# Altium footprint library CQFP_Sq_63P_Side_N.PcbLib: 12 footprints
Each footprint in its own frame and in the unit in brackets; x right, y up, seen from the top. Pads: shape width x height; smd on the part's side, far side on the other; paste and mask are expansions set on the pad; w line width, h text height; cw(c..) or ccw(c..) is an arc to the next point about the centre after c.
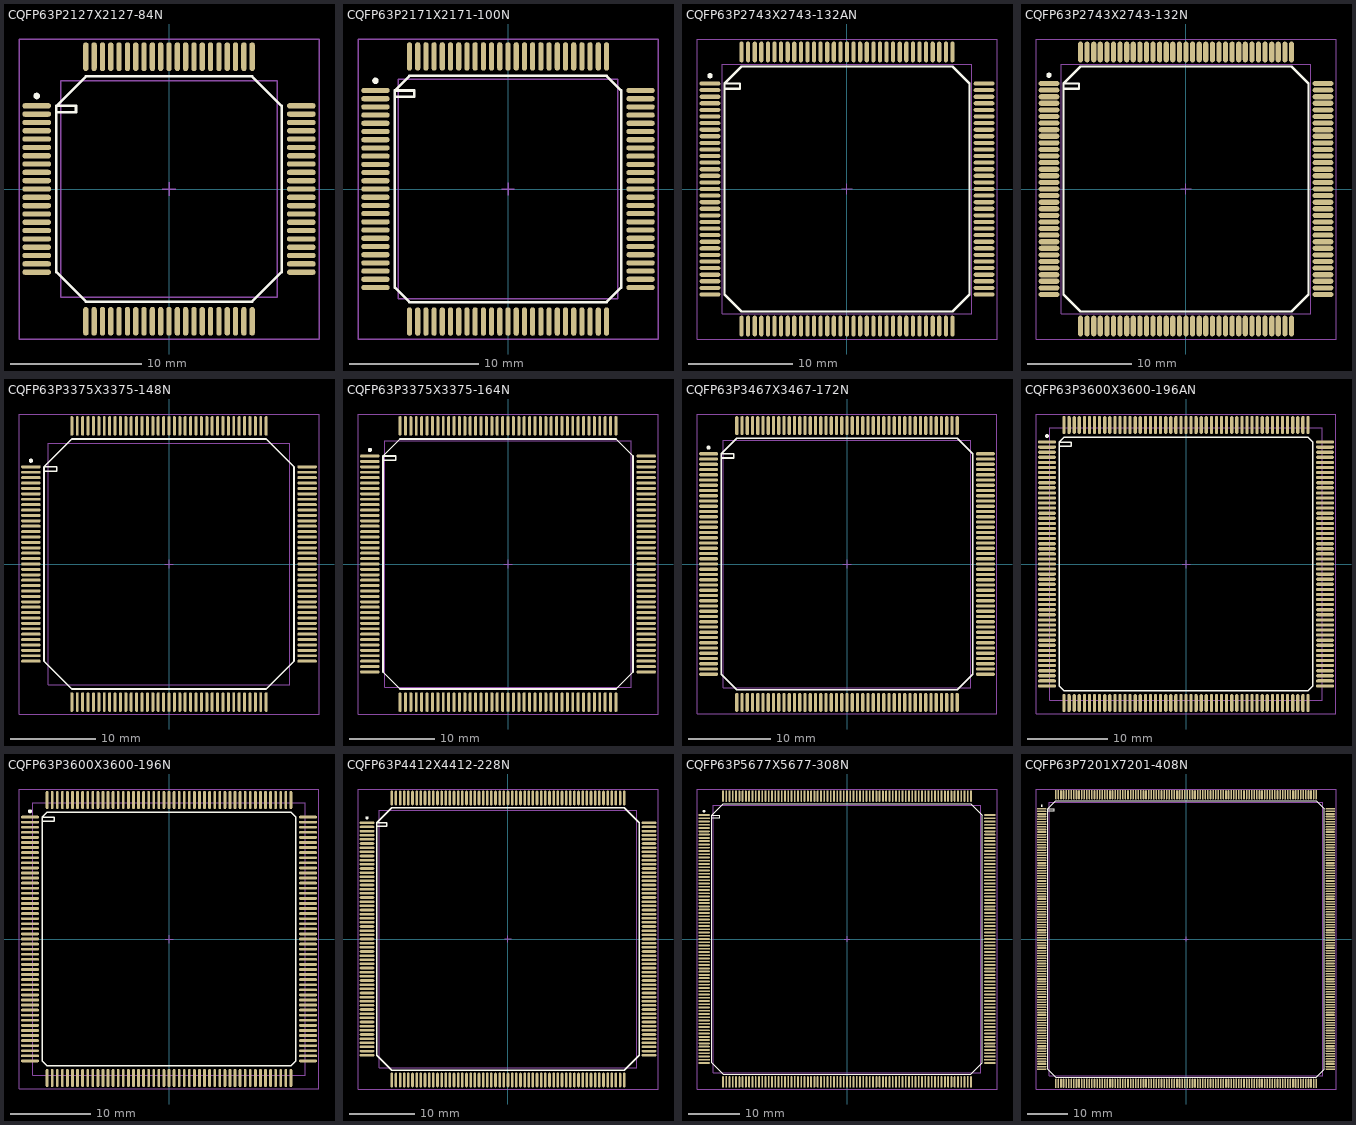
[diagram p0: the footprints below, top view; thin cyan lines are the x and y axes]

## CQFP63P2127X2127-84N [mm] "CQFP, 84-Leads, Body 16.5x16.5mm; Pitch 0.635mm, Gullwing Leadform, IPC Medium Density"
height 2.4
pads (84):
  oval 2.2x0.4 smd: 1(-10.1,6.35) 2(-10.1,5.715) 3(-10.1,5.08) 4(-10.1,4.445) 5(-10.1,3.81) 6(-10.1,3.175) 7(-10.1,2.54) 8(-10.1,1.905) 9(-10.1,1.27) 10(-10.1,0.635) 11(-10.1,0) 12(-10.1,-0.635) 13(-10.1,-1.27) 14(-10.1,-1.905) 15(-10.1,-2.54) 16(-10.1,-3.175) 17(-10.1,-3.81) 18(-10.1,-4.445) 19(-10.1,-5.08) 20(-10.1,-5.715) 21(-10.1,-6.35) 43(10.1,-6.35) 44(10.1,-5.715) 45(10.1,-5.08) 46(10.1,-4.445) 47(10.1,-3.81) 48(10.1,-3.175) 49(10.1,-2.54) 50(10.1,-1.905) 51(10.1,-1.27) 52(10.1,-0.635) 53(10.1,0) 54(10.1,0.635) 55(10.1,1.27) 56(10.1,1.905) 57(10.1,2.54) 58(10.1,3.175) 59(10.1,3.81) 60(10.1,4.445) 61(10.1,5.08) 62(10.1,5.715) 63(10.1,6.35)
  oval 0.4x2.2 smd: 22(-6.35,-10.1) 23(-5.715,-10.1) 24(-5.08,-10.1) 25(-4.445,-10.1) 26(-3.81,-10.1) 27(-3.175,-10.1) 28(-2.54,-10.1) 29(-1.905,-10.1) 30(-1.27,-10.1) 31(-0.635,-10.1) 32(0,-10.1) 33(0.635,-10.1) 34(1.27,-10.1) 35(1.905,-10.1) 36(2.54,-10.1) 37(3.175,-10.1) 38(3.81,-10.1) 39(4.445,-10.1) 40(5.08,-10.1) 41(5.715,-10.1) 42(6.35,-10.1) 64(6.35,10.1) 65(5.715,10.1) 66(5.08,10.1) 67(4.445,10.1) 68(3.81,10.1) 69(3.175,10.1) 70(2.54,10.1) 71(1.905,10.1) 72(1.27,10.1) 73(0.635,10.1) 74(0,10.1) 75(-0.635,10.1) 76(-1.27,10.1) 77(-1.905,10.1) 78(-2.54,10.1) 79(-3.175,10.1) 80(-3.81,10.1) 81(-4.445,10.1) 82(-5.08,10.1) 83(-5.715,10.1) 84(-6.35,10.1)
Top Overlay:
  circle w0.25: c-10.1,7.1 r0.125
  lines w0.2: -8.6,5.85 -7.1,5.85 -7.1,6.35 -8.6,6.35 ; -8.6,6.35 -6.35,8.6 6.35,8.6 8.6,6.35 8.6,-6.35 6.35,-8.6 -6.35,-8.6 -8.6,-6.35 -8.6,6.35
Mechanical 13:
  lines w0.1: -8.255,-8.255 8.255,-8.255 8.255,8.255 -8.255,8.255 -8.255,-8.255
Mechanical 15:
  lines w0.1: -0.5,0 0.5,0 ; 0,-0.5 0,0.5 ; -11.45,-11.45 11.45,-11.45 11.45,11.45 -11.45,11.45 -11.45,-11.45
3D body: height 2.4, standoff 0, extent -8.255,-8.255 8.255,8.255

## CQFP63P2171X2171-100N [mm] "100-Pin Ceramic Quad Flat Pack 0.635 mm Pitch"
height 3.2
pads (100):
  oval 2.2x0.4 smd: 1(-10.25,7.62) 2(-10.25,6.985) 3(-10.25,6.35) 4(-10.25,5.715) 5(-10.25,5.08) 6(-10.25,4.445) 7(-10.25,3.81) 8(-10.25,3.175) 9(-10.25,2.54) 10(-10.25,1.905) 11(-10.25,1.27) 12(-10.25,0.635) 13(-10.25,0) 14(-10.25,-0.635) 15(-10.25,-1.27) 16(-10.25,-1.905) 17(-10.25,-2.54) 18(-10.25,-3.175) 19(-10.25,-3.81) 20(-10.25,-4.445) 21(-10.25,-5.08) 22(-10.25,-5.715) 23(-10.25,-6.35) 24(-10.25,-6.985) 25(-10.25,-7.62) 51(10.25,-7.62) 52(10.25,-6.985) 53(10.25,-6.35) 54(10.25,-5.715) 55(10.25,-5.08) 56(10.25,-4.445) 57(10.25,-3.81) 58(10.25,-3.175) 59(10.25,-2.54) 60(10.25,-1.905) 61(10.25,-1.27) 62(10.25,-0.635) 63(10.25,0) 64(10.25,0.635) 65(10.25,1.27) 66(10.25,1.905) 67(10.25,2.54) 68(10.25,3.175) 69(10.25,3.81) 70(10.25,4.445) 71(10.25,5.08) 72(10.25,5.715) 73(10.25,6.35) 74(10.25,6.985) 75(10.25,7.62)
  oval 0.4x2.2 smd: 26(-7.62,-10.25) 27(-6.985,-10.25) 28(-6.35,-10.25) 29(-5.715,-10.25) 30(-5.08,-10.25) 31(-4.445,-10.25) 32(-3.81,-10.25) 33(-3.175,-10.25) 34(-2.54,-10.25) 35(-1.905,-10.25) 36(-1.27,-10.25) 37(-0.635,-10.25) 38(0,-10.25) 39(0.635,-10.25) 40(1.27,-10.25) 41(1.905,-10.25) 42(2.54,-10.25) 43(3.175,-10.25) 44(3.81,-10.25) 45(4.445,-10.25) 46(5.08,-10.25) 47(5.715,-10.25) 48(6.35,-10.25) 49(6.985,-10.25) 50(7.62,-10.25) 76(7.62,10.25) 77(6.985,10.25) 78(6.35,10.25) 79(5.715,10.25) 80(5.08,10.25) 81(4.445,10.25) 82(3.81,10.25) 83(3.175,10.25) 84(2.54,10.25) 85(1.905,10.25) 86(1.27,10.25) 87(0.635,10.25) 88(0,10.25) 89(-0.635,10.25) 90(-1.27,10.25) 91(-1.905,10.25) 92(-2.54,10.25) 93(-3.175,10.25) 94(-3.81,10.25) 95(-4.445,10.25) 96(-5.08,10.25) 97(-5.715,10.25) 98(-6.35,10.25) 99(-6.985,10.25) 100(-7.62,10.25)
Top Overlay:
  circle w0.25: c-10.25,8.37 r0.125
  lines w0.2: -8.75,7.12 -7.25,7.12 -7.25,7.62 -8.75,7.62 ; -8.75,7.62 -7.62,8.75 7.62,8.75 8.75,7.62 8.75,-7.62 7.62,-8.75 -7.62,-8.75 -8.75,-7.62 -8.75,7.62
Mechanical 13:
  lines w0.1: -8.475,-8.475 8.475,-8.475 8.475,8.475 -8.475,8.475 -8.475,-8.475
Mechanical 15:
  lines w0.1: -0.5,0 0.5,0 ; 0,-0.5 0,0.5 ; -11.6,-11.6 11.6,-11.6 11.6,11.6 -11.6,11.6 -11.6,-11.6
3D body: height 3.2, standoff 0, extent -8.475,-8.475 8.475,8.475

## CQFP63P2743X2743-132AN [mm] "CQFP, 132-Leads, Body 24x24mm; Pitch 0.635mm, Gullwing Leadform, IPC Medium Density"
height 3
pads (132):
  oval 2x0.4 smd: 1(-13.2,10.16) 2(-13.2,9.525) 3(-13.2,8.89) 4(-13.2,8.255) 5(-13.2,7.62) 6(-13.2,6.985) 7(-13.2,6.35) 8(-13.2,5.715) 9(-13.2,5.08) 10(-13.2,4.445) 11(-13.2,3.81) 12(-13.2,3.175) 13(-13.2,2.54) 14(-13.2,1.905) 15(-13.2,1.27) 16(-13.2,0.635) 17(-13.2,0) 18(-13.2,-0.635) 19(-13.2,-1.27) 20(-13.2,-1.905) 21(-13.2,-2.54) 22(-13.2,-3.175) 23(-13.2,-3.81) 24(-13.2,-4.445) 25(-13.2,-5.08) 26(-13.2,-5.715) 27(-13.2,-6.35) 28(-13.2,-6.985) 29(-13.2,-7.62) 30(-13.2,-8.255) 31(-13.2,-8.89) 32(-13.2,-9.525) 33(-13.2,-10.16) 67(13.2,-10.16) 68(13.2,-9.525) 69(13.2,-8.89) 70(13.2,-8.255) 71(13.2,-7.62) 72(13.2,-6.985) 73(13.2,-6.35) 74(13.2,-5.715) 75(13.2,-5.08) 76(13.2,-4.445) 77(13.2,-3.81) 78(13.2,-3.175) 79(13.2,-2.54) 80(13.2,-1.905) 81(13.2,-1.27) 82(13.2,-0.635) 83(13.2,0) 84(13.2,0.635) 85(13.2,1.27) 86(13.2,1.905) 87(13.2,2.54) 88(13.2,3.175) 89(13.2,3.81) 90(13.2,4.445) 91(13.2,5.08) 92(13.2,5.715) 93(13.2,6.35) 94(13.2,6.985) 95(13.2,7.62) 96(13.2,8.255) 97(13.2,8.89) 98(13.2,9.525) 99(13.2,10.16)
  oval 0.4x2 smd: 34(-10.16,-13.2) 35(-9.525,-13.2) 36(-8.89,-13.2) 37(-8.255,-13.2) 38(-7.62,-13.2) 39(-6.985,-13.2) 40(-6.35,-13.2) 41(-5.715,-13.2) 42(-5.08,-13.2) 43(-4.445,-13.2) 44(-3.81,-13.2) 45(-3.175,-13.2) 46(-2.54,-13.2) 47(-1.905,-13.2) 48(-1.27,-13.2) 49(-0.635,-13.2) 50(0,-13.2) 51(0.635,-13.2) 52(1.27,-13.2) 53(1.905,-13.2) 54(2.54,-13.2) 55(3.175,-13.2) 56(3.81,-13.2) 57(4.445,-13.2) 58(5.08,-13.2) 59(5.715,-13.2) 60(6.35,-13.2) 61(6.985,-13.2) 62(7.62,-13.2) 63(8.255,-13.2) 64(8.89,-13.2) 65(9.525,-13.2) 66(10.16,-13.2) 100(10.16,13.2) 101(9.525,13.2) 102(8.89,13.2) 103(8.255,13.2) 104(7.62,13.2) 105(6.985,13.2) 106(6.35,13.2) 107(5.715,13.2) 108(5.08,13.2) 109(4.445,13.2) 110(3.81,13.2) 111(3.175,13.2) 112(2.54,13.2) 113(1.905,13.2) 114(1.27,13.2) 115(0.635,13.2) 116(0,13.2) 117(-0.635,13.2) 118(-1.27,13.2) 119(-1.905,13.2) 120(-2.54,13.2) 121(-3.175,13.2) 122(-3.81,13.2) 123(-4.445,13.2) 124(-5.08,13.2) 125(-5.715,13.2) 126(-6.35,13.2) 127(-6.985,13.2) 128(-7.62,13.2) 129(-8.255,13.2) 130(-8.89,13.2) 131(-9.525,13.2) 132(-10.16,13.2)
Top Overlay:
  circle w0.25: c-13.2,10.91 r0.125
  lines w0.2: -11.8,9.66 -10.3,9.66 -10.3,10.16 -11.8,10.16 ; -11.8,10.16 -10.16,11.8 10.16,11.8 11.8,10.16 11.8,-10.16 10.16,-11.8 -10.16,-11.8 -11.8,-10.16 -11.8,10.16
Mechanical 13:
  lines w0.1: -12.035,-12.035 12.035,-12.035 12.035,12.035 -12.035,12.035 -12.035,-12.035
Mechanical 15:
  lines w0.1: -0.5,0 0.5,0 ; 0,-0.5 0,0.5 ; -14.45,-14.45 14.45,-14.45 14.45,14.45 -14.45,14.45 -14.45,-14.45
3D body: height 3, standoff 0, extent -12.035,-12.035 12.035,12.035

## CQFP63P2743X2743-132N [mm] "CQFP, 132-Leads, Body 24x24mm; Pitch 0.635mm, Gullwing Leadform, IPC Medium Density"
height 3.6
pads (132):
  oval 2x0.5 smd: 1(-13.2,10.16) 2(-13.2,9.525) 3(-13.2,8.89) 4(-13.2,8.255) 5(-13.2,7.62) 6(-13.2,6.985) 7(-13.2,6.35) 8(-13.2,5.715) 9(-13.2,5.08) 10(-13.2,4.445) 11(-13.2,3.81) 12(-13.2,3.175) 13(-13.2,2.54) 14(-13.2,1.905) 15(-13.2,1.27) 16(-13.2,0.635) 17(-13.2,0) 18(-13.2,-0.635) 19(-13.2,-1.27) 20(-13.2,-1.905) 21(-13.2,-2.54) 22(-13.2,-3.175) 23(-13.2,-3.81) 24(-13.2,-4.445) 25(-13.2,-5.08) 26(-13.2,-5.715) 27(-13.2,-6.35) 28(-13.2,-6.985) 29(-13.2,-7.62) 30(-13.2,-8.255) 31(-13.2,-8.89) 32(-13.2,-9.525) 33(-13.2,-10.16) 67(13.2,-10.16) 68(13.2,-9.525) 69(13.2,-8.89) 70(13.2,-8.255) 71(13.2,-7.62) 72(13.2,-6.985) 73(13.2,-6.35) 74(13.2,-5.715) 75(13.2,-5.08) 76(13.2,-4.445) 77(13.2,-3.81) 78(13.2,-3.175) 79(13.2,-2.54) 80(13.2,-1.905) 81(13.2,-1.27) 82(13.2,-0.635) 83(13.2,0) 84(13.2,0.635) 85(13.2,1.27) 86(13.2,1.905) 87(13.2,2.54) 88(13.2,3.175) 89(13.2,3.81) 90(13.2,4.445) 91(13.2,5.08) 92(13.2,5.715) 93(13.2,6.35) 94(13.2,6.985) 95(13.2,7.62) 96(13.2,8.255) 97(13.2,8.89) 98(13.2,9.525) 99(13.2,10.16)
  oval 0.5x2 smd: 34(-10.16,-13.2) 35(-9.525,-13.2) 36(-8.89,-13.2) 37(-8.255,-13.2) 38(-7.62,-13.2) 39(-6.985,-13.2) 40(-6.35,-13.2) 41(-5.715,-13.2) 42(-5.08,-13.2) 43(-4.445,-13.2) 44(-3.81,-13.2) 45(-3.175,-13.2) 46(-2.54,-13.2) 47(-1.905,-13.2) 48(-1.27,-13.2) 49(-0.635,-13.2) 50(0,-13.2) 51(0.635,-13.2) 52(1.27,-13.2) 53(1.905,-13.2) 54(2.54,-13.2) 55(3.175,-13.2) 56(3.81,-13.2) 57(4.445,-13.2) 58(5.08,-13.2) 59(5.715,-13.2) 60(6.35,-13.2) 61(6.985,-13.2) 62(7.62,-13.2) 63(8.255,-13.2) 64(8.89,-13.2) 65(9.525,-13.2) 66(10.16,-13.2) 100(10.16,13.2) 101(9.525,13.2) 102(8.89,13.2) 103(8.255,13.2) 104(7.62,13.2) 105(6.985,13.2) 106(6.35,13.2) 107(5.715,13.2) 108(5.08,13.2) 109(4.445,13.2) 110(3.81,13.2) 111(3.175,13.2) 112(2.54,13.2) 113(1.905,13.2) 114(1.27,13.2) 115(0.635,13.2) 116(0,13.2) 117(-0.635,13.2) 118(-1.27,13.2) 119(-1.905,13.2) 120(-2.54,13.2) 121(-3.175,13.2) 122(-3.81,13.2) 123(-4.445,13.2) 124(-5.08,13.2) 125(-5.715,13.2) 126(-6.35,13.2) 127(-6.985,13.2) 128(-7.62,13.2) 129(-8.255,13.2) 130(-8.89,13.2) 131(-9.525,13.2) 132(-10.16,13.2)
Top Overlay:
  circle w0.25: c-13.2,10.96 r0.125
  lines w0.2: -11.8,9.66 -10.3,9.66 -10.3,10.16 -11.8,10.16 ; -11.8,10.16 -10.16,11.8 10.16,11.8 11.8,10.16 11.8,-10.16 10.16,-11.8 -10.16,-11.8 -11.8,-10.16 -11.8,10.16
Mechanical 13:
  lines w0.1: -12.035,-12.035 12.035,-12.035 12.035,12.035 -12.035,12.035 -12.035,-12.035
Mechanical 15:
  lines w0.1: -0.5,0 0.5,0 ; 0,-0.5 0,0.5 ; -14.45,-14.45 14.45,-14.45 14.45,14.45 -14.45,14.45 -14.45,-14.45
3D body: height 3.6, standoff 0, extent -12.035,-12.035 12.035,12.035

## CQFP63P3375X3375-148N [mm] "CQFP, 148-Leads, Body 28.5x28.5mm; Pitch 0.635mm, Gullwing Leadform, IPC Medium Density"
height 3.1
pads (148):
  oval 2.3x0.35 smd: 1(-16.25,11.43) 2(-16.25,10.795) 3(-16.25,10.16) 4(-16.25,9.525) 5(-16.25,8.89) 6(-16.25,8.255) 7(-16.25,7.62) 8(-16.25,6.985) 9(-16.25,6.35) 10(-16.25,5.715) 11(-16.25,5.08) 12(-16.25,4.445) 13(-16.25,3.81) 14(-16.25,3.175) 15(-16.25,2.54) 16(-16.25,1.905) 17(-16.25,1.27) 18(-16.25,0.635) 19(-16.25,0) 20(-16.25,-0.635) 21(-16.25,-1.27) 22(-16.25,-1.905) 23(-16.25,-2.54) 24(-16.25,-3.175) 25(-16.25,-3.81) 26(-16.25,-4.445) 27(-16.25,-5.08) 28(-16.25,-5.715) 29(-16.25,-6.35) 30(-16.25,-6.985) 31(-16.25,-7.62) 32(-16.25,-8.255) 33(-16.25,-8.89) 34(-16.25,-9.525) 35(-16.25,-10.16) 36(-16.25,-10.795) 37(-16.25,-11.43) 75(16.25,-11.43) 76(16.25,-10.795) 77(16.25,-10.16) 78(16.25,-9.525) 79(16.25,-8.89) 80(16.25,-8.255) 81(16.25,-7.62) 82(16.25,-6.985) 83(16.25,-6.35) 84(16.25,-5.715) 85(16.25,-5.08) 86(16.25,-4.445) 87(16.25,-3.81) 88(16.25,-3.175) 89(16.25,-2.54) 90(16.25,-1.905) 91(16.25,-1.27) 92(16.25,-0.635) 93(16.25,0) 94(16.25,0.635) 95(16.25,1.27) 96(16.25,1.905) 97(16.25,2.54) 98(16.25,3.175) 99(16.25,3.81) 100(16.25,4.445) 101(16.25,5.08) 102(16.25,5.715) 103(16.25,6.35) 104(16.25,6.985) 105(16.25,7.62) 106(16.25,8.255) 107(16.25,8.89) 108(16.25,9.525) 109(16.25,10.16) 110(16.25,10.795) 111(16.25,11.43)
  oval 0.35x2.3 smd: 38(-11.43,-16.25) 39(-10.795,-16.25) 40(-10.16,-16.25) 41(-9.525,-16.25) 42(-8.89,-16.25) 43(-8.255,-16.25) 44(-7.62,-16.25) 45(-6.985,-16.25) 46(-6.35,-16.25) 47(-5.715,-16.25) 48(-5.08,-16.25) 49(-4.445,-16.25) 50(-3.81,-16.25) 51(-3.175,-16.25) 52(-2.54,-16.25) 53(-1.905,-16.25) 54(-1.27,-16.25) 55(-0.635,-16.25) 56(0,-16.25) 57(0.635,-16.25) 58(1.27,-16.25) 59(1.905,-16.25) 60(2.54,-16.25) 61(3.175,-16.25) 62(3.81,-16.25) 63(4.445,-16.25) 64(5.08,-16.25) 65(5.715,-16.25) 66(6.35,-16.25) 67(6.985,-16.25) 68(7.62,-16.25) 69(8.255,-16.25) 70(8.89,-16.25) 71(9.525,-16.25) 72(10.16,-16.25) 73(10.795,-16.25) 74(11.43,-16.25) 112(11.43,16.25) 113(10.795,16.25) 114(10.16,16.25) 115(9.525,16.25) 116(8.89,16.25) 117(8.255,16.25) 118(7.62,16.25) 119(6.985,16.25) 120(6.35,16.25) 121(5.715,16.25) 122(5.08,16.25) 123(4.445,16.25) 124(3.81,16.25) 125(3.175,16.25) 126(2.54,16.25) 127(1.905,16.25) 128(1.27,16.25) 129(0.635,16.25) 130(0,16.25) 131(-0.635,16.25) 132(-1.27,16.25) 133(-1.905,16.25) 134(-2.54,16.25) 135(-3.175,16.25) 136(-3.81,16.25) 137(-4.445,16.25) 138(-5.08,16.25) 139(-5.715,16.25) 140(-6.35,16.25) 141(-6.985,16.25) 142(-7.62,16.25) 143(-8.255,16.25) 144(-8.89,16.25) 145(-9.525,16.25) 146(-10.16,16.25) 147(-10.795,16.25) 148(-11.43,16.25)
Top Overlay:
  circle w0.25: c-16.25,12.155 r0.125
  lines w0.2: -14.7,10.93 -13.2,10.93 -13.2,11.43 -14.7,11.43 ; -14.7,11.43 -11.43,14.7 11.43,14.7 14.7,11.43 14.7,-11.43 11.43,-14.7 -11.43,-14.7 -14.7,-11.43 -14.7,11.43
Mechanical 13:
  lines w0.1: -14.23,-14.23 14.23,-14.23 14.23,14.23 -14.23,14.23 -14.23,-14.23
Mechanical 15:
  lines w0.1: -0.5,0 0.5,0 ; 0,-0.5 0,0.5 ; -17.65,-17.65 17.65,-17.65 17.65,17.65 -17.65,17.65 -17.65,-17.65
3D body: height 3.1, standoff 0, extent -14.23,-14.23 14.23,14.23

## CQFP63P3375X3375-164N [mm] "CQFP, 164-Leads, Body 29x29mm; Pitch 0.635mm, Gullwing Leadform, IPC Medium Density"
height 3.4
pads (164):
  oval 2.3x0.35 smd: 1(-16.25,12.7) 2(-16.25,12.065) 3(-16.25,11.43) 4(-16.25,10.795) 5(-16.25,10.16) 6(-16.25,9.525) 7(-16.25,8.89) 8(-16.25,8.255) 9(-16.25,7.62) 10(-16.25,6.985) 11(-16.25,6.35) 12(-16.25,5.715) 13(-16.25,5.08) 14(-16.25,4.445) 15(-16.25,3.81) 16(-16.25,3.175) 17(-16.25,2.54) 18(-16.25,1.905) 19(-16.25,1.27) 20(-16.25,0.635) 21(-16.25,0) 22(-16.25,-0.635) 23(-16.25,-1.27) 24(-16.25,-1.905) 25(-16.25,-2.54) 26(-16.25,-3.175) 27(-16.25,-3.81) 28(-16.25,-4.445) 29(-16.25,-5.08) 30(-16.25,-5.715) 31(-16.25,-6.35) 32(-16.25,-6.985) 33(-16.25,-7.62) 34(-16.25,-8.255) 35(-16.25,-8.89) 36(-16.25,-9.525) 37(-16.25,-10.16) 38(-16.25,-10.795) 39(-16.25,-11.43) 40(-16.25,-12.065) 41(-16.25,-12.7) 83(16.25,-12.7) 84(16.25,-12.065) 85(16.25,-11.43) 86(16.25,-10.795) 87(16.25,-10.16) 88(16.25,-9.525) 89(16.25,-8.89) 90(16.25,-8.255) 91(16.25,-7.62) 92(16.25,-6.985) 93(16.25,-6.35) 94(16.25,-5.715) 95(16.25,-5.08) 96(16.25,-4.445) 97(16.25,-3.81) 98(16.25,-3.175) 99(16.25,-2.54) 100(16.25,-1.905) 101(16.25,-1.27) 102(16.25,-0.635) 103(16.25,0) 104(16.25,0.635) 105(16.25,1.27) 106(16.25,1.905) 107(16.25,2.54) 108(16.25,3.175) 109(16.25,3.81) 110(16.25,4.445) 111(16.25,5.08) 112(16.25,5.715) 113(16.25,6.35) 114(16.25,6.985) 115(16.25,7.62) 116(16.25,8.255) 117(16.25,8.89) 118(16.25,9.525) 119(16.25,10.16) 120(16.25,10.795) 121(16.25,11.43) 122(16.25,12.065) 123(16.25,12.7)
  oval 0.35x2.3 smd: 42(-12.7,-16.25) 43(-12.065,-16.25) 44(-11.43,-16.25) 45(-10.795,-16.25) 46(-10.16,-16.25) 47(-9.525,-16.25) 48(-8.89,-16.25) 49(-8.255,-16.25) 50(-7.62,-16.25) 51(-6.985,-16.25) 52(-6.35,-16.25) 53(-5.715,-16.25) 54(-5.08,-16.25) 55(-4.445,-16.25) 56(-3.81,-16.25) 57(-3.175,-16.25) 58(-2.54,-16.25) 59(-1.905,-16.25) 60(-1.27,-16.25) 61(-0.635,-16.25) 62(0,-16.25) 63(0.635,-16.25) 64(1.27,-16.25) 65(1.905,-16.25) 66(2.54,-16.25) 67(3.175,-16.25) 68(3.81,-16.25) 69(4.445,-16.25) 70(5.08,-16.25) 71(5.715,-16.25) 72(6.35,-16.25) 73(6.985,-16.25) 74(7.62,-16.25) 75(8.255,-16.25) 76(8.89,-16.25) 77(9.525,-16.25) 78(10.16,-16.25) 79(10.795,-16.25) 80(11.43,-16.25) 81(12.065,-16.25) 82(12.7,-16.25) 124(12.7,16.25) 125(12.065,16.25) 126(11.43,16.25) 127(10.795,16.25) 128(10.16,16.25) 129(9.525,16.25) 130(8.89,16.25) 131(8.255,16.25) 132(7.62,16.25) 133(6.985,16.25) 134(6.35,16.25) 135(5.715,16.25) 136(5.08,16.25) 137(4.445,16.25) 138(3.81,16.25) 139(3.175,16.25) 140(2.54,16.25) 141(1.905,16.25) 142(1.27,16.25) 143(0.635,16.25) 144(0,16.25) 145(-0.635,16.25) 146(-1.27,16.25) 147(-1.905,16.25) 148(-2.54,16.25) 149(-3.175,16.25) 150(-3.81,16.25) 151(-4.445,16.25) 152(-5.08,16.25) 153(-5.715,16.25) 154(-6.35,16.25) 155(-6.985,16.25) 156(-7.62,16.25) 157(-8.255,16.25) 158(-8.89,16.25) 159(-9.525,16.25) 160(-10.16,16.25) 161(-10.795,16.25) 162(-11.43,16.25) 163(-12.065,16.25) 164(-12.7,16.25)
Top Overlay:
  circle w0.25: c-16.25,13.425 r0.125
  lines w0.2: -14.7,12.2 -13.2,12.2 -13.2,12.7 -14.7,12.7 ; -14.7,12.7 -12.7,14.7 12.7,14.7 14.7,12.7 14.7,-12.7 12.7,-14.7 -12.7,-14.7 -14.7,-12.7 -14.7,12.7
Mechanical 13:
  lines w0.1: -14.525,-14.525 14.525,-14.525 14.525,14.525 -14.525,14.525 -14.525,-14.525
Mechanical 15:
  lines w0.1: -0.5,0 0.5,0 ; 0,-0.5 0,0.5 ; -17.65,-17.65 17.65,-17.65 17.65,17.65 -17.65,17.65 -17.65,-17.65
3D body: height 3.4, standoff 0, extent -14.525,-14.525 14.525,14.525

## CQFP63P3467X3467-172N [mm] "CQFP, 172-Leads, Body 30x30mm; Pitch 0.635mm, Gullwing Leadform, IPC Medium Density"
height 3
pads (172):
  oval 2.3x0.4 smd: 1(-16.75,13.335) 2(-16.75,12.7) 3(-16.75,12.065) 4(-16.75,11.43) 5(-16.75,10.795) 6(-16.75,10.16) 7(-16.75,9.525) 8(-16.75,8.89) 9(-16.75,8.255) 10(-16.75,7.62) 11(-16.75,6.985) 12(-16.75,6.35) 13(-16.75,5.715) 14(-16.75,5.08) 15(-16.75,4.445) 16(-16.75,3.81) 17(-16.75,3.175) 18(-16.75,2.54) 19(-16.75,1.905) 20(-16.75,1.27) 21(-16.75,0.635) 22(-16.75,0) 23(-16.75,-0.635) 24(-16.75,-1.27) 25(-16.75,-1.905) 26(-16.75,-2.54) 27(-16.75,-3.175) 28(-16.75,-3.81) 29(-16.75,-4.445) 30(-16.75,-5.08) 31(-16.75,-5.715) 32(-16.75,-6.35) 33(-16.75,-6.985) 34(-16.75,-7.62) 35(-16.75,-8.255) 36(-16.75,-8.89) 37(-16.75,-9.525) 38(-16.75,-10.16) 39(-16.75,-10.795) 40(-16.75,-11.43) 41(-16.75,-12.065) 42(-16.75,-12.7) 43(-16.75,-13.335) 87(16.75,-13.335) 88(16.75,-12.7) 89(16.75,-12.065) 90(16.75,-11.43) 91(16.75,-10.795) 92(16.75,-10.16) 93(16.75,-9.525) 94(16.75,-8.89) 95(16.75,-8.255) 96(16.75,-7.62) 97(16.75,-6.985) 98(16.75,-6.35) 99(16.75,-5.715) 100(16.75,-5.08) 101(16.75,-4.445) 102(16.75,-3.81) 103(16.75,-3.175) 104(16.75,-2.54) 105(16.75,-1.905) 106(16.75,-1.27) 107(16.75,-0.635) 108(16.75,0) 109(16.75,0.635) 110(16.75,1.27) 111(16.75,1.905) 112(16.75,2.54) 113(16.75,3.175) 114(16.75,3.81) 115(16.75,4.445) 116(16.75,5.08) 117(16.75,5.715) 118(16.75,6.35) 119(16.75,6.985) 120(16.75,7.62) 121(16.75,8.255) 122(16.75,8.89) 123(16.75,9.525) 124(16.75,10.16) 125(16.75,10.795) 126(16.75,11.43) 127(16.75,12.065) 128(16.75,12.7) 129(16.75,13.335)
  oval 0.4x2.3 smd: 44(-13.335,-16.75) 45(-12.7,-16.75) 46(-12.065,-16.75) 47(-11.43,-16.75) 48(-10.795,-16.75) 49(-10.16,-16.75) 50(-9.525,-16.75) 51(-8.89,-16.75) 52(-8.255,-16.75) 53(-7.62,-16.75) 54(-6.985,-16.75) 55(-6.35,-16.75) 56(-5.715,-16.75) 57(-5.08,-16.75) 58(-4.445,-16.75) 59(-3.81,-16.75) 60(-3.175,-16.75) 61(-2.54,-16.75) 62(-1.905,-16.75) 63(-1.27,-16.75) 64(-0.635,-16.75) 65(0,-16.75) 66(0.635,-16.75) 67(1.27,-16.75) 68(1.905,-16.75) 69(2.54,-16.75) 70(3.175,-16.75) 71(3.81,-16.75) 72(4.445,-16.75) 73(5.08,-16.75) 74(5.715,-16.75) 75(6.35,-16.75) 76(6.985,-16.75) 77(7.62,-16.75) 78(8.255,-16.75) 79(8.89,-16.75) 80(9.525,-16.75) 81(10.16,-16.75) 82(10.795,-16.75) 83(11.43,-16.75) 84(12.065,-16.75) 85(12.7,-16.75) 86(13.335,-16.75) 130(13.335,16.75) 131(12.7,16.75) 132(12.065,16.75) 133(11.43,16.75) 134(10.795,16.75) 135(10.16,16.75) 136(9.525,16.75) 137(8.89,16.75) 138(8.255,16.75) 139(7.62,16.75) 140(6.985,16.75) 141(6.35,16.75) 142(5.715,16.75) 143(5.08,16.75) 144(4.445,16.75) 145(3.81,16.75) 146(3.175,16.75) 147(2.54,16.75) 148(1.905,16.75) 149(1.27,16.75) 150(0.635,16.75) 151(0,16.75) 152(-0.635,16.75) 153(-1.27,16.75) 154(-1.905,16.75) 155(-2.54,16.75) 156(-3.175,16.75) 157(-3.81,16.75) 158(-4.445,16.75) 159(-5.08,16.75) 160(-5.715,16.75) 161(-6.35,16.75) 162(-6.985,16.75) 163(-7.62,16.75) 164(-8.255,16.75) 165(-8.89,16.75) 166(-9.525,16.75) 167(-10.16,16.75) 168(-10.795,16.75) 169(-11.43,16.75) 170(-12.065,16.75) 171(-12.7,16.75) 172(-13.335,16.75)
Top Overlay:
  circle w0.25: c-16.75,14.085 r0.125
  lines w0.2: -15.2,12.835 -13.7,12.835 -13.7,13.335 -15.2,13.335 ; -15.2,13.335 -13.335,15.2 13.335,15.2 15.2,13.335 15.2,-13.335 13.335,-15.2 -13.335,-15.2 -15.2,-13.335 -15.2,13.335
Mechanical 13:
  lines w0.1: -14.985,-14.985 14.985,-14.985 14.985,14.985 -14.985,14.985 -14.985,-14.985
Mechanical 15:
  lines w0.1: -0.5,0 0.5,0 ; 0,-0.5 0,0.5 ; -18.15,-18.15 18.15,-18.15 18.15,18.15 -18.15,18.15 -18.15,-18.15
3D body: height 3, standoff 0, extent -14.985,-14.985 14.985,14.985

## CQFP63P3600X3600-196AN [mm] "196-Pin Ceramic Quad Flat Pack 0.635 mm Pitch"
height 2.7
pads (196):
  oval 2.25x0.4 smd: 1(-17.375,15.24) 2(-17.375,14.605) 3(-17.375,13.97) 4(-17.375,13.335) 5(-17.375,12.7) 6(-17.375,12.065) 7(-17.375,11.43) 8(-17.375,10.795) 9(-17.375,10.16) 10(-17.375,9.525) 11(-17.375,8.89) 12(-17.375,8.255) 13(-17.375,7.62) 14(-17.375,6.985) 15(-17.375,6.35) 16(-17.375,5.715) 17(-17.375,5.08) 18(-17.375,4.445) 19(-17.375,3.81) 20(-17.375,3.175) 21(-17.375,2.54) 22(-17.375,1.905) 23(-17.375,1.27) 24(-17.375,0.635) 25(-17.375,0) 26(-17.375,-0.635) 27(-17.375,-1.27) 28(-17.375,-1.905) 29(-17.375,-2.54) 30(-17.375,-3.175) 31(-17.375,-3.81) 32(-17.375,-4.445) 33(-17.375,-5.08) 34(-17.375,-5.715) 35(-17.375,-6.35) 36(-17.375,-6.985) 37(-17.375,-7.62) 38(-17.375,-8.255) 39(-17.375,-8.89) 40(-17.375,-9.525) 41(-17.375,-10.16) 42(-17.375,-10.795) 43(-17.375,-11.43) 44(-17.375,-12.065) 45(-17.375,-12.7) 46(-17.375,-13.335) 47(-17.375,-13.97) 48(-17.375,-14.605) 49(-17.375,-15.24) 99(17.375,-15.24) 100(17.375,-14.605) 101(17.375,-13.97) 102(17.375,-13.335) 103(17.375,-12.7) 104(17.375,-12.065) 105(17.375,-11.43) 106(17.375,-10.795) 107(17.375,-10.16) 108(17.375,-9.525) 109(17.375,-8.89) 110(17.375,-8.255) 111(17.375,-7.62) 112(17.375,-6.985) 113(17.375,-6.35) 114(17.375,-5.715) 115(17.375,-5.08) 116(17.375,-4.445) 117(17.375,-3.81) 118(17.375,-3.175) 119(17.375,-2.54) 120(17.375,-1.905) 121(17.375,-1.27) 122(17.375,-0.635) 123(17.375,0) 124(17.375,0.635) 125(17.375,1.27) 126(17.375,1.905) 127(17.375,2.54) 128(17.375,3.175) 129(17.375,3.81) 130(17.375,4.445) 131(17.375,5.08) 132(17.375,5.715) 133(17.375,6.35) 134(17.375,6.985) 135(17.375,7.62) 136(17.375,8.255) 137(17.375,8.89) 138(17.375,9.525) 139(17.375,10.16) 140(17.375,10.795) 141(17.375,11.43) 142(17.375,12.065) 143(17.375,12.7) 144(17.375,13.335) 145(17.375,13.97) 146(17.375,14.605) 147(17.375,15.24)
  oval 0.4x2.25 smd: 50(-15.24,-17.375) 51(-14.605,-17.375) 52(-13.97,-17.375) 53(-13.335,-17.375) 54(-12.7,-17.375) 55(-12.065,-17.375) 56(-11.43,-17.375) 57(-10.795,-17.375) 58(-10.16,-17.375) 59(-9.525,-17.375) 60(-8.89,-17.375) 61(-8.255,-17.375) 62(-7.62,-17.375) 63(-6.985,-17.375) 64(-6.35,-17.375) 65(-5.715,-17.375) 66(-5.08,-17.375) 67(-4.445,-17.375) 68(-3.81,-17.375) 69(-3.175,-17.375) 70(-2.54,-17.375) 71(-1.905,-17.375) 72(-1.27,-17.375) 73(-0.635,-17.375) 74(0,-17.375) 75(0.635,-17.375) 76(1.27,-17.375) 77(1.905,-17.375) 78(2.54,-17.375) 79(3.175,-17.375) 80(3.81,-17.375) 81(4.445,-17.375) 82(5.08,-17.375) 83(5.715,-17.375) 84(6.35,-17.375) 85(6.985,-17.375) 86(7.62,-17.375) 87(8.255,-17.375) 88(8.89,-17.375) 89(9.525,-17.375) 90(10.16,-17.375) 91(10.795,-17.375) 92(11.43,-17.375) 93(12.065,-17.375) 94(12.7,-17.375) 95(13.335,-17.375) 96(13.97,-17.375) 97(14.605,-17.375) 98(15.24,-17.375) 148(15.24,17.375) 149(14.605,17.375) 150(13.97,17.375) 151(13.335,17.375) 152(12.7,17.375) 153(12.065,17.375) 154(11.43,17.375) 155(10.795,17.375) 156(10.16,17.375) 157(9.525,17.375) 158(8.89,17.375) 159(8.255,17.375) 160(7.62,17.375) 161(6.985,17.375) 162(6.35,17.375) 163(5.715,17.375) 164(5.08,17.375) 165(4.445,17.375) 166(3.81,17.375) 167(3.175,17.375) 168(2.54,17.375) 169(1.905,17.375) 170(1.27,17.375) 171(0.635,17.375) 172(0,17.375) 173(-0.635,17.375) 174(-1.27,17.375) 175(-1.905,17.375) 176(-2.54,17.375) 177(-3.175,17.375) 178(-3.81,17.375) 179(-4.445,17.375) 180(-5.08,17.375) 181(-5.715,17.375) 182(-6.35,17.375) 183(-6.985,17.375) 184(-7.62,17.375) 185(-8.255,17.375) 186(-8.89,17.375) 187(-9.525,17.375) 188(-10.16,17.375) 189(-10.795,17.375) 190(-11.43,17.375) 191(-12.065,17.375) 192(-12.7,17.375) 193(-13.335,17.375) 194(-13.97,17.375) 195(-14.605,17.375) 196(-15.24,17.375)
Top Overlay:
  circle w0.25: c-17.375,15.99 r0.125
  lines w0.2: -15.85,14.74 -14.35,14.74 -14.35,15.24 -15.85,15.24 ; -15.85,15.24 -15.24,15.85 15.24,15.85 15.85,15.24 15.85,-15.24 15.24,-15.85 -15.24,-15.85 -15.85,-15.24 -15.85,15.24
Mechanical 13:
  lines w0.1: -17.025,-17.025 17.025,-17.025 17.025,17.025 -17.025,17.025 -17.025,-17.025
Mechanical 15:
  lines w0.1: -0.5,0 0.5,0 ; 0,-0.5 0,0.5 ; -18.75,-18.75 18.75,-18.75 18.75,18.75 -18.75,18.75 -18.75,-18.75
3D body: height 2.7, standoff 0, extent -17.025,-17.025 17.025,17.025

## CQFP63P3600X3600-196N [mm] "CQFP, 196-Leads, Body 34x34mm; Pitch 0.635mm, Gullwing Leadform, IPC Medium Density"
height 2.7
pads (196):
  oval 2.25x0.35 smd: 1(-17.375,15.24) 2(-17.375,14.605) 3(-17.375,13.97) 4(-17.375,13.335) 5(-17.375,12.7) 6(-17.375,12.065) 7(-17.375,11.43) 8(-17.375,10.795) 9(-17.375,10.16) 10(-17.375,9.525) 11(-17.375,8.89) 12(-17.375,8.255) 13(-17.375,7.62) 14(-17.375,6.985) 15(-17.375,6.35) 16(-17.375,5.715) 17(-17.375,5.08) 18(-17.375,4.445) 19(-17.375,3.81) 20(-17.375,3.175) 21(-17.375,2.54) 22(-17.375,1.905) 23(-17.375,1.27) 24(-17.375,0.635) 25(-17.375,0) 26(-17.375,-0.635) 27(-17.375,-1.27) 28(-17.375,-1.905) 29(-17.375,-2.54) 30(-17.375,-3.175) 31(-17.375,-3.81) 32(-17.375,-4.445) 33(-17.375,-5.08) 34(-17.375,-5.715) 35(-17.375,-6.35) 36(-17.375,-6.985) 37(-17.375,-7.62) 38(-17.375,-8.255) 39(-17.375,-8.89) 40(-17.375,-9.525) 41(-17.375,-10.16) 42(-17.375,-10.795) 43(-17.375,-11.43) 44(-17.375,-12.065) 45(-17.375,-12.7) 46(-17.375,-13.335) 47(-17.375,-13.97) 48(-17.375,-14.605) 49(-17.375,-15.24) 99(17.375,-15.24) 100(17.375,-14.605) 101(17.375,-13.97) 102(17.375,-13.335) 103(17.375,-12.7) 104(17.375,-12.065) 105(17.375,-11.43) 106(17.375,-10.795) 107(17.375,-10.16) 108(17.375,-9.525) 109(17.375,-8.89) 110(17.375,-8.255) 111(17.375,-7.62) 112(17.375,-6.985) 113(17.375,-6.35) 114(17.375,-5.715) 115(17.375,-5.08) 116(17.375,-4.445) 117(17.375,-3.81) 118(17.375,-3.175) 119(17.375,-2.54) 120(17.375,-1.905) 121(17.375,-1.27) 122(17.375,-0.635) 123(17.375,0) 124(17.375,0.635) 125(17.375,1.27) 126(17.375,1.905) 127(17.375,2.54) 128(17.375,3.175) 129(17.375,3.81) 130(17.375,4.445) 131(17.375,5.08) 132(17.375,5.715) 133(17.375,6.35) 134(17.375,6.985) 135(17.375,7.62) 136(17.375,8.255) 137(17.375,8.89) 138(17.375,9.525) 139(17.375,10.16) 140(17.375,10.795) 141(17.375,11.43) 142(17.375,12.065) 143(17.375,12.7) 144(17.375,13.335) 145(17.375,13.97) 146(17.375,14.605) 147(17.375,15.24)
  oval 0.35x2.25 smd: 50(-15.24,-17.375) 51(-14.605,-17.375) 52(-13.97,-17.375) 53(-13.335,-17.375) 54(-12.7,-17.375) 55(-12.065,-17.375) 56(-11.43,-17.375) 57(-10.795,-17.375) 58(-10.16,-17.375) 59(-9.525,-17.375) 60(-8.89,-17.375) 61(-8.255,-17.375) 62(-7.62,-17.375) 63(-6.985,-17.375) 64(-6.35,-17.375) 65(-5.715,-17.375) 66(-5.08,-17.375) 67(-4.445,-17.375) 68(-3.81,-17.375) 69(-3.175,-17.375) 70(-2.54,-17.375) 71(-1.905,-17.375) 72(-1.27,-17.375) 73(-0.635,-17.375) 74(0,-17.375) 75(0.635,-17.375) 76(1.27,-17.375) 77(1.905,-17.375) 78(2.54,-17.375) 79(3.175,-17.375) 80(3.81,-17.375) 81(4.445,-17.375) 82(5.08,-17.375) 83(5.715,-17.375) 84(6.35,-17.375) 85(6.985,-17.375) 86(7.62,-17.375) 87(8.255,-17.375) 88(8.89,-17.375) 89(9.525,-17.375) 90(10.16,-17.375) 91(10.795,-17.375) 92(11.43,-17.375) 93(12.065,-17.375) 94(12.7,-17.375) 95(13.335,-17.375) 96(13.97,-17.375) 97(14.605,-17.375) 98(15.24,-17.375) 148(15.24,17.375) 149(14.605,17.375) 150(13.97,17.375) 151(13.335,17.375) 152(12.7,17.375) 153(12.065,17.375) 154(11.43,17.375) 155(10.795,17.375) 156(10.16,17.375) 157(9.525,17.375) 158(8.89,17.375) 159(8.255,17.375) 160(7.62,17.375) 161(6.985,17.375) 162(6.35,17.375) 163(5.715,17.375) 164(5.08,17.375) 165(4.445,17.375) 166(3.81,17.375) 167(3.175,17.375) 168(2.54,17.375) 169(1.905,17.375) 170(1.27,17.375) 171(0.635,17.375) 172(0,17.375) 173(-0.635,17.375) 174(-1.27,17.375) 175(-1.905,17.375) 176(-2.54,17.375) 177(-3.175,17.375) 178(-3.81,17.375) 179(-4.445,17.375) 180(-5.08,17.375) 181(-5.715,17.375) 182(-6.35,17.375) 183(-6.985,17.375) 184(-7.62,17.375) 185(-8.255,17.375) 186(-8.89,17.375) 187(-9.525,17.375) 188(-10.16,17.375) 189(-10.795,17.375) 190(-11.43,17.375) 191(-12.065,17.375) 192(-12.7,17.375) 193(-13.335,17.375) 194(-13.97,17.375) 195(-14.605,17.375) 196(-15.24,17.375)
Top Overlay:
  circle w0.25: c-17.375,15.965 r0.125
  lines w0.2: -15.85,14.74 -14.35,14.74 -14.35,15.24 -15.85,15.24 ; -15.85,15.24 -15.24,15.85 15.24,15.85 15.85,15.24 15.85,-15.24 15.24,-15.85 -15.24,-15.85 -15.85,-15.24 -15.85,15.24
Mechanical 13:
  lines w0.1: -17.025,-17.025 17.025,-17.025 17.025,17.025 -17.025,17.025 -17.025,-17.025
Mechanical 15:
  lines w0.1: -0.5,0 0.5,0 ; 0,-0.5 0,0.5 ; -18.75,-18.75 18.75,-18.75 18.75,18.75 -18.75,18.75 -18.75,-18.75
3D body: height 2.7, standoff 0, extent -17.025,-17.025 17.025,17.025

## CQFP63P4412X4412-228N [mm] "228-Pin Ceramic Brazed Quad Flat Pack (CB228)"
height 3.4
pads (228):
  oval 2.25x0.4 smd: 1(-21.575,17.78) 2(-21.575,17.145) 3(-21.575,16.51) 4(-21.575,15.875) 5(-21.575,15.24) 6(-21.575,14.605) 7(-21.575,13.97) 8(-21.575,13.335) 9(-21.575,12.7) 10(-21.575,12.065) 11(-21.575,11.43) 12(-21.575,10.795) 13(-21.575,10.16) 14(-21.575,9.525) 15(-21.575,8.89) 16(-21.575,8.255) 17(-21.575,7.62) 18(-21.575,6.985) 19(-21.575,6.35) 20(-21.575,5.715) 21(-21.575,5.08) 22(-21.575,4.445) 23(-21.575,3.81) 24(-21.575,3.175) 25(-21.575,2.54) 26(-21.575,1.905) 27(-21.575,1.27) 28(-21.575,0.635) 29(-21.575,0) 30(-21.575,-0.635) 31(-21.575,-1.27) 32(-21.575,-1.905) 33(-21.575,-2.54) 34(-21.575,-3.175) 35(-21.575,-3.81) 36(-21.575,-4.445) 37(-21.575,-5.08) 38(-21.575,-5.715) 39(-21.575,-6.35) 40(-21.575,-6.985) 41(-21.575,-7.62) 42(-21.575,-8.255) 43(-21.575,-8.89) 44(-21.575,-9.525) 45(-21.575,-10.16) 46(-21.575,-10.795) 47(-21.575,-11.43) 48(-21.575,-12.065) 49(-21.575,-12.7) 50(-21.575,-13.335) 51(-21.575,-13.97) 52(-21.575,-14.605) 53(-21.575,-15.24) 54(-21.575,-15.875) 55(-21.575,-16.51) 56(-21.575,-17.145) 57(-21.575,-17.78) 115(21.575,-17.78) 116(21.575,-17.145) 117(21.575,-16.51) 118(21.575,-15.875) 119(21.575,-15.24) 120(21.575,-14.605) 121(21.575,-13.97) 122(21.575,-13.335) 123(21.575,-12.7) 124(21.575,-12.065) 125(21.575,-11.43) 126(21.575,-10.795) 127(21.575,-10.16) 128(21.575,-9.525) 129(21.575,-8.89) 130(21.575,-8.255) 131(21.575,-7.62) 132(21.575,-6.985) 133(21.575,-6.35) 134(21.575,-5.715) 135(21.575,-5.08) 136(21.575,-4.445) 137(21.575,-3.81) 138(21.575,-3.175) 139(21.575,-2.54) 140(21.575,-1.905) 141(21.575,-1.27) 142(21.575,-0.635) 143(21.575,0) 144(21.575,0.635) 145(21.575,1.27) 146(21.575,1.905) 147(21.575,2.54) 148(21.575,3.175) 149(21.575,3.81) 150(21.575,4.445) 151(21.575,5.08) 152(21.575,5.715) 153(21.575,6.35) 154(21.575,6.985) 155(21.575,7.62) 156(21.575,8.255) 157(21.575,8.89) 158(21.575,9.525) 159(21.575,10.16) 160(21.575,10.795) 161(21.575,11.43) 162(21.575,12.065) 163(21.575,12.7) 164(21.575,13.335) 165(21.575,13.97) 166(21.575,14.605) 167(21.575,15.24) 168(21.575,15.875) 169(21.575,16.51) 170(21.575,17.145) 171(21.575,17.78)
  oval 0.4x2.25 smd: 58(-17.78,-21.575) 59(-17.145,-21.575) 60(-16.51,-21.575) 61(-15.875,-21.575) 62(-15.24,-21.575) 63(-14.605,-21.575) 64(-13.97,-21.575) 65(-13.335,-21.575) 66(-12.7,-21.575) 67(-12.065,-21.575) 68(-11.43,-21.575) 69(-10.795,-21.575) 70(-10.16,-21.575) 71(-9.525,-21.575) 72(-8.89,-21.575) 73(-8.255,-21.575) 74(-7.62,-21.575) 75(-6.985,-21.575) 76(-6.35,-21.575) 77(-5.715,-21.575) 78(-5.08,-21.575) 79(-4.445,-21.575) 80(-3.81,-21.575) 81(-3.175,-21.575) 82(-2.54,-21.575) 83(-1.905,-21.575) 84(-1.27,-21.575) 85(-0.635,-21.575) 86(0,-21.575) 87(0.635,-21.575) 88(1.27,-21.575) 89(1.905,-21.575) 90(2.54,-21.575) 91(3.175,-21.575) 92(3.81,-21.575) 93(4.445,-21.575) 94(5.08,-21.575) 95(5.715,-21.575) 96(6.35,-21.575) 97(6.985,-21.575) 98(7.62,-21.575) 99(8.255,-21.575) 100(8.89,-21.575) 101(9.525,-21.575) 102(10.16,-21.575) 103(10.795,-21.575) 104(11.43,-21.575) 105(12.065,-21.575) 106(12.7,-21.575) 107(13.335,-21.575) 108(13.97,-21.575) 109(14.605,-21.575) 110(15.24,-21.575) 111(15.875,-21.575) 112(16.51,-21.575) 113(17.145,-21.575) 114(17.78,-21.575) 172(17.78,21.575) 173(17.145,21.575) 174(16.51,21.575) 175(15.875,21.575) 176(15.24,21.575) 177(14.605,21.575) 178(13.97,21.575) 179(13.335,21.575) 180(12.7,21.575) 181(12.065,21.575) 182(11.43,21.575) 183(10.795,21.575) 184(10.16,21.575) 185(9.525,21.575) 186(8.89,21.575) 187(8.255,21.575) 188(7.62,21.575) 189(6.985,21.575) 190(6.35,21.575) 191(5.715,21.575) 192(5.08,21.575) 193(4.445,21.575) 194(3.81,21.575) 195(3.175,21.575) 196(2.54,21.575) 197(1.905,21.575) 198(1.27,21.575) 199(0.635,21.575) 200(0,21.575) 201(-0.635,21.575) 202(-1.27,21.575) 203(-1.905,21.575) 204(-2.54,21.575) 205(-3.175,21.575) 206(-3.81,21.575) 207(-4.445,21.575) 208(-5.08,21.575) 209(-5.715,21.575) 210(-6.35,21.575) 211(-6.985,21.575) 212(-7.62,21.575) 213(-8.255,21.575) 214(-8.89,21.575) 215(-9.525,21.575) 216(-10.16,21.575) 217(-10.795,21.575) 218(-11.43,21.575) 219(-12.065,21.575) 220(-12.7,21.575) 221(-13.335,21.575) 222(-13.97,21.575) 223(-14.605,21.575) 224(-15.24,21.575) 225(-15.875,21.575) 226(-16.51,21.575) 227(-17.145,21.575) 228(-17.78,21.575)
Top Overlay:
  circle w0.25: c-21.575,18.53 r0.125
  lines w0.2: -20.05,17.28 -18.55,17.28 -18.55,17.78 -20.05,17.78 ; -20.05,17.78 -17.78,20.05 17.78,20.05 20.05,17.78 20.05,-17.78 17.78,-20.05 -17.78,-20.05 -20.05,-17.78 -20.05,17.78
Mechanical 13:
  lines w0.1: -19.71,-19.71 19.71,-19.71 19.71,19.71 -19.71,19.71 -19.71,-19.71
Mechanical 15:
  lines w0.1: -0.5,0 0.5,0 ; 0,-0.5 0,0.5 ; -22.95,-22.95 22.95,-22.95 22.95,22.95 -22.95,22.95 -22.95,-22.95
3D body: height 3.4, standoff 0, extent -19.71,-19.71 19.71,19.71

## CQFP63P5677X5677-308N [mm] "CQFP, 308-Leads, Body 52x52mm; Pitch 0.635mm, Gullwing Leadform, IPC Medium Density"
height 2.6
pads (308):
  oval 2.25x0.35 smd: 1(-27.825,24.13) 2(-27.825,23.495) 3(-27.825,22.86) 4(-27.825,22.225) 5(-27.825,21.59) 6(-27.825,20.955) 7(-27.825,20.32) 8(-27.825,19.685) 9(-27.825,19.05) 10(-27.825,18.415) 11(-27.825,17.78) 12(-27.825,17.145) 13(-27.825,16.51) 14(-27.825,15.875) 15(-27.825,15.24) 16(-27.825,14.605) 17(-27.825,13.97) 18(-27.825,13.335) 19(-27.825,12.7) 20(-27.825,12.065) 21(-27.825,11.43) 22(-27.825,10.795) 23(-27.825,10.16) 24(-27.825,9.525) 25(-27.825,8.89) 26(-27.825,8.255) 27(-27.825,7.62) 28(-27.825,6.985) 29(-27.825,6.35) 30(-27.825,5.715) 31(-27.825,5.08) 32(-27.825,4.445) 33(-27.825,3.81) 34(-27.825,3.175) 35(-27.825,2.54) 36(-27.825,1.905) 37(-27.825,1.27) 38(-27.825,0.635) 39(-27.825,0) 40(-27.825,-0.635) 41(-27.825,-1.27) 42(-27.825,-1.905) 43(-27.825,-2.54) 44(-27.825,-3.175) 45(-27.825,-3.81) 46(-27.825,-4.445) 47(-27.825,-5.08) 48(-27.825,-5.715) 49(-27.825,-6.35) 50(-27.825,-6.985) 51(-27.825,-7.62) 52(-27.825,-8.255) 53(-27.825,-8.89) 54(-27.825,-9.525) 55(-27.825,-10.16) 56(-27.825,-10.795) 57(-27.825,-11.43) 58(-27.825,-12.065) 59(-27.825,-12.7) 60(-27.825,-13.335) 61(-27.825,-13.97) 62(-27.825,-14.605) 63(-27.825,-15.24) 64(-27.825,-15.875) 65(-27.825,-16.51) 66(-27.825,-17.145) 67(-27.825,-17.78) 68(-27.825,-18.415) 69(-27.825,-19.05) 70(-27.825,-19.685) 71(-27.825,-20.32) 72(-27.825,-20.955) 73(-27.825,-21.59) 74(-27.825,-22.225) 75(-27.825,-22.86) 76(-27.825,-23.495) 77(-27.825,-24.13) 155(27.825,-24.13) 156(27.825,-23.495) 157(27.825,-22.86) 158(27.825,-22.225) 159(27.825,-21.59) 160(27.825,-20.955) 161(27.825,-20.32) 162(27.825,-19.685) 163(27.825,-19.05) 164(27.825,-18.415) 165(27.825,-17.78) 166(27.825,-17.145) 167(27.825,-16.51) 168(27.825,-15.875) 169(27.825,-15.24) 170(27.825,-14.605) 171(27.825,-13.97) 172(27.825,-13.335) 173(27.825,-12.7) 174(27.825,-12.065) 175(27.825,-11.43) 176(27.825,-10.795) 177(27.825,-10.16) 178(27.825,-9.525) 179(27.825,-8.89) 180(27.825,-8.255) 181(27.825,-7.62) 182(27.825,-6.985) 183(27.825,-6.35) 184(27.825,-5.715) 185(27.825,-5.08) 186(27.825,-4.445) 187(27.825,-3.81) 188(27.825,-3.175) 189(27.825,-2.54) 190(27.825,-1.905) 191(27.825,-1.27) 192(27.825,-0.635) 193(27.825,0) 194(27.825,0.635) 195(27.825,1.27) 196(27.825,1.905) 197(27.825,2.54) 198(27.825,3.175) 199(27.825,3.81) 200(27.825,4.445) 201(27.825,5.08) 202(27.825,5.715) 203(27.825,6.35) 204(27.825,6.985) 205(27.825,7.62) 206(27.825,8.255) 207(27.825,8.89) 208(27.825,9.525) 209(27.825,10.16) 210(27.825,10.795) 211(27.825,11.43) 212(27.825,12.065) 213(27.825,12.7) 214(27.825,13.335) 215(27.825,13.97) 216(27.825,14.605) 217(27.825,15.24) 218(27.825,15.875) 219(27.825,16.51) 220(27.825,17.145) 221(27.825,17.78) 222(27.825,18.415) 223(27.825,19.05) 224(27.825,19.685) 225(27.825,20.32) 226(27.825,20.955) 227(27.825,21.59) 228(27.825,22.225) 229(27.825,22.86) 230(27.825,23.495) 231(27.825,24.13)
  oval 0.35x2.25 smd: 78(-24.13,-27.825) 79(-23.495,-27.825) 80(-22.86,-27.825) 81(-22.225,-27.825) 82(-21.59,-27.825) 83(-20.955,-27.825) 84(-20.32,-27.825) 85(-19.685,-27.825) 86(-19.05,-27.825) 87(-18.415,-27.825) 88(-17.78,-27.825) 89(-17.145,-27.825) 90(-16.51,-27.825) 91(-15.875,-27.825) 92(-15.24,-27.825) 93(-14.605,-27.825) 94(-13.97,-27.825) 95(-13.335,-27.825) 96(-12.7,-27.825) 97(-12.065,-27.825) 98(-11.43,-27.825) 99(-10.795,-27.825) 100(-10.16,-27.825) 101(-9.525,-27.825) 102(-8.89,-27.825) 103(-8.255,-27.825) 104(-7.62,-27.825) 105(-6.985,-27.825) 106(-6.35,-27.825) 107(-5.715,-27.825) 108(-5.08,-27.825) 109(-4.445,-27.825) 110(-3.81,-27.825) 111(-3.175,-27.825) 112(-2.54,-27.825) 113(-1.905,-27.825) 114(-1.27,-27.825) 115(-0.635,-27.825) 116(0,-27.825) 117(0.635,-27.825) 118(1.27,-27.825) 119(1.905,-27.825) 120(2.54,-27.825) 121(3.175,-27.825) 122(3.81,-27.825) 123(4.445,-27.825) 124(5.08,-27.825) 125(5.715,-27.825) 126(6.35,-27.825) 127(6.985,-27.825) 128(7.62,-27.825) 129(8.255,-27.825) 130(8.89,-27.825) 131(9.525,-27.825) 132(10.16,-27.825) 133(10.795,-27.825) 134(11.43,-27.825) 135(12.065,-27.825) 136(12.7,-27.825) 137(13.335,-27.825) 138(13.97,-27.825) 139(14.605,-27.825) 140(15.24,-27.825) 141(15.875,-27.825) 142(16.51,-27.825) 143(17.145,-27.825) 144(17.78,-27.825) 145(18.415,-27.825) 146(19.05,-27.825) 147(19.685,-27.825) 148(20.32,-27.825) 149(20.955,-27.825) 150(21.59,-27.825) 151(22.225,-27.825) 152(22.86,-27.825) 153(23.495,-27.825) 154(24.13,-27.825) 232(24.13,27.825) 233(23.495,27.825) 234(22.86,27.825) 235(22.225,27.825) 236(21.59,27.825) 237(20.955,27.825) 238(20.32,27.825) 239(19.685,27.825) 240(19.05,27.825) 241(18.415,27.825) 242(17.78,27.825) 243(17.145,27.825) 244(16.51,27.825) 245(15.875,27.825) 246(15.24,27.825) 247(14.605,27.825) 248(13.97,27.825) 249(13.335,27.825) 250(12.7,27.825) 251(12.065,27.825) 252(11.43,27.825) 253(10.795,27.825) 254(10.16,27.825) 255(9.525,27.825) 256(8.89,27.825) 257(8.255,27.825) 258(7.62,27.825) 259(6.985,27.825) 260(6.35,27.825) 261(5.715,27.825) 262(5.08,27.825) 263(4.445,27.825) 264(3.81,27.825) 265(3.175,27.825) 266(2.54,27.825) 267(1.905,27.825) 268(1.27,27.825) 269(0.635,27.825) 270(0,27.825) 271(-0.635,27.825) 272(-1.27,27.825) 273(-1.905,27.825) 274(-2.54,27.825) 275(-3.175,27.825) 276(-3.81,27.825) 277(-4.445,27.825) 278(-5.08,27.825) 279(-5.715,27.825) 280(-6.35,27.825) 281(-6.985,27.825) 282(-7.62,27.825) 283(-8.255,27.825) 284(-8.89,27.825) 285(-9.525,27.825) 286(-10.16,27.825) 287(-10.795,27.825) 288(-11.43,27.825) 289(-12.065,27.825) 290(-12.7,27.825) 291(-13.335,27.825) 292(-13.97,27.825) 293(-14.605,27.825) 294(-15.24,27.825) 295(-15.875,27.825) 296(-16.51,27.825) 297(-17.145,27.825) 298(-17.78,27.825) 299(-18.415,27.825) 300(-19.05,27.825) 301(-19.685,27.825) 302(-20.32,27.825) 303(-20.955,27.825) 304(-21.59,27.825) 305(-22.225,27.825) 306(-22.86,27.825) 307(-23.495,27.825) 308(-24.13,27.825)
Top Overlay:
  circle w0.25: c-27.825,24.855 r0.125
  lines w0.2: -26.3,23.63 -24.8,23.63 -24.8,24.13 -26.3,24.13 ; -26.3,24.13 -24.13,26.3 24.13,26.3 26.3,24.13 26.3,-24.13 24.13,-26.3 -24.13,-26.3 -26.3,-24.13 -26.3,24.13
Mechanical 13:
  lines w0.1: -26.035,-26.035 26.035,-26.035 26.035,26.035 -26.035,26.035 -26.035,-26.035
Mechanical 15:
  lines w0.1: -0.5,0 0.5,0 ; 0,-0.5 0,0.5 ; -29.2,-29.2 29.2,-29.2 29.2,29.2 -29.2,29.2 -29.2,-29.2
3D body: height 2.6, standoff 0, extent -26.035,-26.035 26.035,26.035

## CQFP63P7201X7201-408N [mm] "408-Pin Ceramic Quad Flat Pack 0.635 mm Pitch"
height 2.5
pads (408):
  oval 2.3x0.4 smd: 1(-35.55,32.067) 2(-35.55,31.432) 3(-35.55,30.797) 4(-35.55,30.162) 5(-35.55,29.527) 6(-35.55,28.892) 7(-35.55,28.258) 8(-35.55,27.622) 9(-35.55,26.987) 10(-35.55,26.352) 11(-35.55,25.717) 12(-35.55,25.082) 13(-35.55,24.447) 14(-35.55,23.812) 15(-35.55,23.177) 16(-35.55,22.543) 17(-35.55,21.907) 18(-35.55,21.273) 19(-35.55,20.637) 20(-35.55,20.002) 21(-35.55,19.367) 22(-35.55,18.732) 23(-35.55,18.098) 24(-35.55,17.462) 25(-35.55,16.828) 26(-35.55,16.192) 27(-35.55,15.557) 28(-35.55,14.922) 29(-35.55,14.287) 30(-35.55,13.652) 31(-35.55,13.018) 32(-35.55,12.383) 33(-35.55,11.747) 34(-35.55,11.112) 35(-35.55,10.477) 36(-35.55,9.842) 37(-35.55,9.207) 38(-35.55,8.572) 39(-35.55,7.938) 40(-35.55,7.302) 41(-35.55,6.667) 42(-35.55,6.032) 43(-35.55,5.397) 44(-35.55,4.763) 45(-35.55,4.127) 46(-35.55,3.492) 47(-35.55,2.857) 48(-35.55,2.222) 49(-35.55,1.587) 50(-35.55,0.953) 51(-35.55,0.318) 52(-35.55,-0.318) 53(-35.55,-0.953) 54(-35.55,-1.587) 55(-35.55,-2.222) 56(-35.55,-2.857) 57(-35.55,-3.492) 58(-35.55,-4.127) 59(-35.55,-4.763) 60(-35.55,-5.397) 61(-35.55,-6.032) 62(-35.55,-6.667) 63(-35.55,-7.302) 64(-35.55,-7.938) 65(-35.55,-8.572) 66(-35.55,-9.207) 67(-35.55,-9.842) 68(-35.55,-10.477) 69(-35.55,-11.112) 70(-35.55,-11.747) 71(-35.55,-12.383) 72(-35.55,-13.018) 73(-35.55,-13.652) 74(-35.55,-14.287) 75(-35.55,-14.922) 76(-35.55,-15.557) 77(-35.55,-16.192) 78(-35.55,-16.828) 79(-35.55,-17.462) 80(-35.55,-18.098) 81(-35.55,-18.732) 82(-35.55,-19.367) 83(-35.55,-20.002) 84(-35.55,-20.637) 85(-35.55,-21.273) 86(-35.55,-21.907) 87(-35.55,-22.543) 88(-35.55,-23.177) 89(-35.55,-23.812) 90(-35.55,-24.447) 91(-35.55,-25.082) 92(-35.55,-25.717) 93(-35.55,-26.352) 94(-35.55,-26.987) 95(-35.55,-27.622) 96(-35.55,-28.258) 97(-35.55,-28.892) 98(-35.55,-29.527) 99(-35.55,-30.162) 100(-35.55,-30.797) 101(-35.55,-31.432) 102(-35.55,-32.067) 205(35.55,-32.067) 206(35.55,-31.432) 207(35.55,-30.797) 208(35.55,-30.162) 209(35.55,-29.527) 210(35.55,-28.892) 211(35.55,-28.258) 212(35.55,-27.622) 213(35.55,-26.987) 214(35.55,-26.352) 215(35.55,-25.717) 216(35.55,-25.082) 217(35.55,-24.447) 218(35.55,-23.812) 219(35.55,-23.177) 220(35.55,-22.543) 221(35.55,-21.907) 222(35.55,-21.273) 223(35.55,-20.637) 224(35.55,-20.002) 225(35.55,-19.367) 226(35.55,-18.732) 227(35.55,-18.098) 228(35.55,-17.462) 229(35.55,-16.828) 230(35.55,-16.192) 231(35.55,-15.557) 232(35.55,-14.922) 233(35.55,-14.287) 234(35.55,-13.652) 235(35.55,-13.018) 236(35.55,-12.383) 237(35.55,-11.747) 238(35.55,-11.112) 239(35.55,-10.477) 240(35.55,-9.842) 241(35.55,-9.207) 242(35.55,-8.572) 243(35.55,-7.938) 244(35.55,-7.302) 245(35.55,-6.667) 246(35.55,-6.032) 247(35.55,-5.397) 248(35.55,-4.763) 249(35.55,-4.127) 250(35.55,-3.492) 251(35.55,-2.857) 252(35.55,-2.222) 253(35.55,-1.587) 254(35.55,-0.953) 255(35.55,-0.318) 256(35.55,0.318) 257(35.55,0.953) 258(35.55,1.587) 259(35.55,2.222) 260(35.55,2.857) 261(35.55,3.492) 262(35.55,4.127) 263(35.55,4.763) 264(35.55,5.397) 265(35.55,6.032) 266(35.55,6.667) 267(35.55,7.302) 268(35.55,7.938) 269(35.55,8.572) 270(35.55,9.207) 271(35.55,9.842) 272(35.55,10.477) 273(35.55,11.112) 274(35.55,11.747) 275(35.55,12.383) 276(35.55,13.018) 277(35.55,13.652) 278(35.55,14.287) 279(35.55,14.922) 280(35.55,15.557) 281(35.55,16.192) 282(35.55,16.828) 283(35.55,17.462) 284(35.55,18.098) 285(35.55,18.732) 286(35.55,19.367) 287(35.55,20.002) 288(35.55,20.637) 289(35.55,21.273) 290(35.55,21.907) 291(35.55,22.543) 292(35.55,23.177) 293(35.55,23.812) 294(35.55,24.447) 295(35.55,25.082) 296(35.55,25.717) 297(35.55,26.352) 298(35.55,26.987) 299(35.55,27.622) 300(35.55,28.258) 301(35.55,28.892) 302(35.55,29.527) 303(35.55,30.162) 304(35.55,30.797) 305(35.55,31.432) 306(35.55,32.067)
  oval 0.4x2.3 smd: 103(-32.067,-35.55) 104(-31.432,-35.55) 105(-30.797,-35.55) 106(-30.162,-35.55) 107(-29.527,-35.55) 108(-28.892,-35.55) 109(-28.258,-35.55) 110(-27.622,-35.55) 111(-26.987,-35.55) 112(-26.352,-35.55) 113(-25.717,-35.55) 114(-25.082,-35.55) 115(-24.447,-35.55) 116(-23.812,-35.55) 117(-23.177,-35.55) 118(-22.543,-35.55) 119(-21.907,-35.55) 120(-21.273,-35.55) 121(-20.637,-35.55) 122(-20.002,-35.55) 123(-19.367,-35.55) 124(-18.732,-35.55) 125(-18.098,-35.55) 126(-17.462,-35.55) 127(-16.828,-35.55) 128(-16.192,-35.55) 129(-15.557,-35.55) 130(-14.922,-35.55) 131(-14.287,-35.55) 132(-13.652,-35.55) 133(-13.018,-35.55) 134(-12.383,-35.55) 135(-11.747,-35.55) 136(-11.112,-35.55) 137(-10.477,-35.55) 138(-9.842,-35.55) 139(-9.207,-35.55) 140(-8.572,-35.55) 141(-7.938,-35.55) 142(-7.302,-35.55) 143(-6.667,-35.55) 144(-6.032,-35.55) 145(-5.397,-35.55) 146(-4.763,-35.55) 147(-4.127,-35.55) 148(-3.492,-35.55) 149(-2.857,-35.55) 150(-2.222,-35.55) 151(-1.587,-35.55) 152(-0.953,-35.55) 153(-0.318,-35.55) 154(0.318,-35.55) 155(0.953,-35.55) 156(1.587,-35.55) 157(2.222,-35.55) 158(2.857,-35.55) 159(3.492,-35.55) 160(4.127,-35.55) 161(4.763,-35.55) 162(5.397,-35.55) 163(6.032,-35.55) 164(6.667,-35.55) 165(7.302,-35.55) 166(7.938,-35.55) 167(8.572,-35.55) 168(9.207,-35.55) 169(9.842,-35.55) 170(10.477,-35.55) 171(11.112,-35.55) 172(11.747,-35.55) 173(12.383,-35.55) 174(13.018,-35.55) 175(13.652,-35.55) 176(14.287,-35.55) 177(14.922,-35.55) 178(15.557,-35.55) 179(16.192,-35.55) 180(16.828,-35.55) 181(17.462,-35.55) 182(18.098,-35.55) 183(18.732,-35.55) 184(19.367,-35.55) 185(20.002,-35.55) 186(20.637,-35.55) 187(21.273,-35.55) 188(21.907,-35.55) 189(22.543,-35.55) 190(23.177,-35.55) 191(23.812,-35.55) 192(24.447,-35.55) 193(25.082,-35.55) 194(25.717,-35.55) 195(26.352,-35.55) 196(26.987,-35.55) 197(27.622,-35.55) 198(28.258,-35.55) 199(28.892,-35.55) 200(29.527,-35.55) 201(30.162,-35.55) 202(30.797,-35.55) 203(31.432,-35.55) 204(32.067,-35.55) 307(32.067,35.55) 308(31.432,35.55) 309(30.797,35.55) 310(30.162,35.55) 311(29.527,35.55) 312(28.892,35.55) 313(28.258,35.55) 314(27.622,35.55) 315(26.987,35.55) 316(26.352,35.55) 317(25.717,35.55) 318(25.082,35.55) 319(24.447,35.55) 320(23.812,35.55) 321(23.177,35.55) 322(22.543,35.55) 323(21.907,35.55) 324(21.273,35.55) 325(20.637,35.55) 326(20.002,35.55) 327(19.367,35.55) 328(18.732,35.55) 329(18.098,35.55) 330(17.462,35.55) 331(16.828,35.55) 332(16.192,35.55) 333(15.557,35.55) 334(14.922,35.55) 335(14.287,35.55) 336(13.652,35.55) 337(13.018,35.55) 338(12.383,35.55) 339(11.747,35.55) 340(11.112,35.55) 341(10.477,35.55) 342(9.842,35.55) 343(9.207,35.55) 344(8.572,35.55) 345(7.938,35.55) 346(7.302,35.55) 347(6.667,35.55) 348(6.032,35.55) 349(5.397,35.55) 350(4.763,35.55) 351(4.127,35.55) 352(3.492,35.55) 353(2.857,35.55) 354(2.222,35.55) 355(1.587,35.55) 356(0.953,35.55) 357(0.318,35.55) 358(-0.318,35.55) 359(-0.953,35.55) 360(-1.587,35.55) 361(-2.222,35.55) 362(-2.857,35.55) 363(-3.492,35.55) 364(-4.127,35.55) 365(-4.763,35.55) 366(-5.397,35.55) 367(-6.032,35.55) 368(-6.667,35.55) 369(-7.302,35.55) 370(-7.938,35.55) 371(-8.572,35.55) 372(-9.207,35.55) 373(-9.842,35.55) 374(-10.477,35.55) 375(-11.112,35.55) 376(-11.747,35.55) 377(-12.383,35.55) 378(-13.018,35.55) 379(-13.652,35.55) 380(-14.287,35.55) 381(-14.922,35.55) 382(-15.557,35.55) 383(-16.192,35.55) 384(-16.828,35.55) 385(-17.462,35.55) 386(-18.098,35.55) 387(-18.732,35.55) 388(-19.367,35.55) 389(-20.002,35.55) 390(-20.637,35.55) 391(-21.273,35.55) 392(-21.907,35.55) 393(-22.543,35.55) 394(-23.177,35.55) 395(-23.812,35.55) 396(-24.447,35.55) 397(-25.082,35.55) 398(-25.717,35.55) 399(-26.352,35.55) 400(-26.987,35.55) 401(-27.622,35.55) 402(-28.258,35.55) 403(-28.892,35.55) 404(-29.527,35.55) 405(-30.162,35.55) 406(-30.797,35.55) 407(-31.432,35.55) 408(-32.067,35.55)
Top Overlay:
  circle w0.25: c-35.55,32.818 r0.125
  lines w0.2: -34,31.57 -32.5,31.57 -32.5,32.07 -34,32.07 ; -34,32.07 -32.07,34 32.07,34 34,32.07 34,-32.07 32.07,-34 -32.07,-34 -34,-32.07 -34,32.07
Mechanical 13:
  lines w0.1: -33.655,-33.655 33.655,-33.655 33.655,33.655 -33.655,33.655 -33.655,-33.655
Mechanical 15:
  lines w0.1: -0.5,0 0.5,0 ; 0,-0.5 0,0.5 ; -36.95,-36.95 36.95,-36.95 36.95,36.95 -36.95,36.95 -36.95,-36.95
3D body: height 2.5, standoff 0, extent -33.655,-33.655 33.655,33.655